# EAGLE library part TPS2491 (library ic)
TPS2491: Hotswap controller (Texas Instruments) +9...+80V
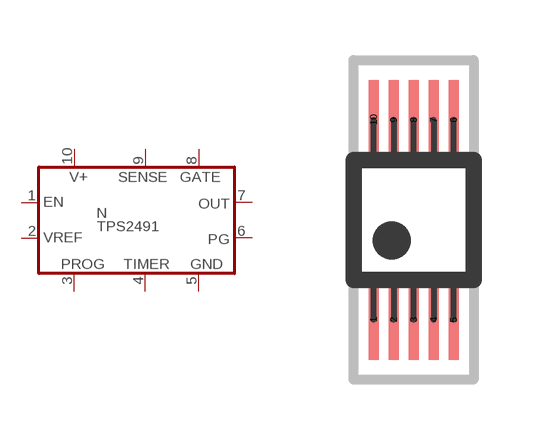
[diagram p122: symbol with the pads of MSOP10; footprint MSOP10]

Designator prefix N

## TPS2491  [MSOP10]
1  EN  in
2  VREF  out
3  PROG  in
4  TIMER  pas
5  GND  pwr
6  PG  out
7  OUT  out
8  GATE  out
9  SENSE  in
10  V+  pwr

## Footprint MSOP10 (pad centres in mm)
smd 0.25 x 2: 1 -1,-2.5; 2 -0.5,-2.5; 3 0,-2.5; 4 0.5,-2.5; 5 1,-2.5; 6 1,2.5; 7 0.5,2.5; 8 0,2.5; 9 -0.5,2.5; 10 -1,2.5